# Altium footprint library IDC_100_2x2.PcbLib: 1 footprints
Each footprint in its own frame and in the unit in brackets; x right, y up, seen from the top. Pads: shape width x height; smd on the part's side, far side on the other; paste and mask are expansions set on the pad; w line width, h text height; cw(c..) or ccw(c..) is an arc to the next point about the centre after c.
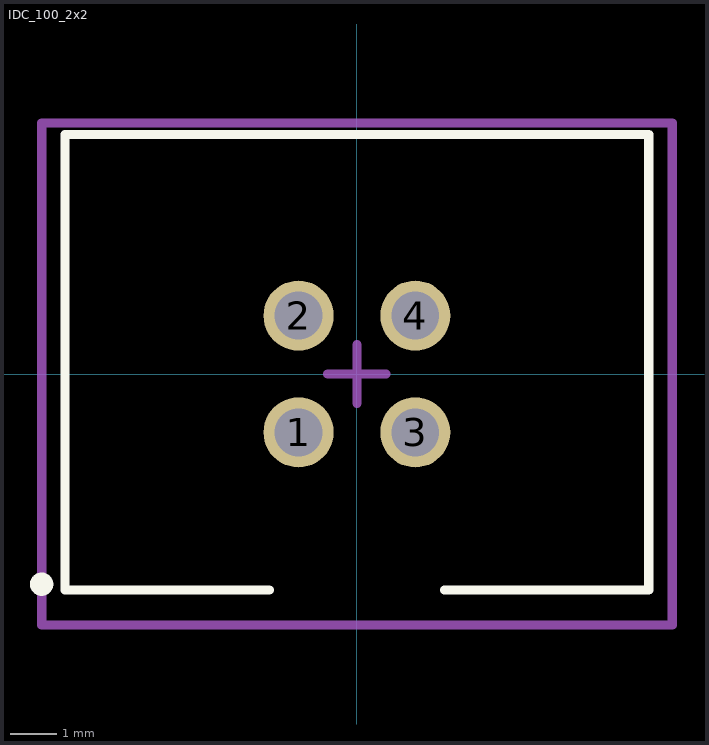
[diagram p0: the footprint, top view; thin cyan lines are the x and y axes]

## IDC_100_2x2 [mil]
pads (4):
  round 60 hole 41: 1(-50,-50) 2(-50,50) 3(50,-50) 4(50,50)
Top Overlay:
  circle w10: c-270,-180 r5
  lines w7.87: -75,-185 -250,-185 -250,205 250,205 250,-185 75,-185
Mechanical 15:
  lines w7.87: -25,0 25,0 ; 0,-25 0,25 ; -270,-215 -270,215 270,215 270,-215 -270,-215
3D body "75869130lf.stp": height 367.56, standoff -119.44, extent -241.93,-175 241.93,189.96